# EAGLE library part SW_ROT_2P12T (library wheat)
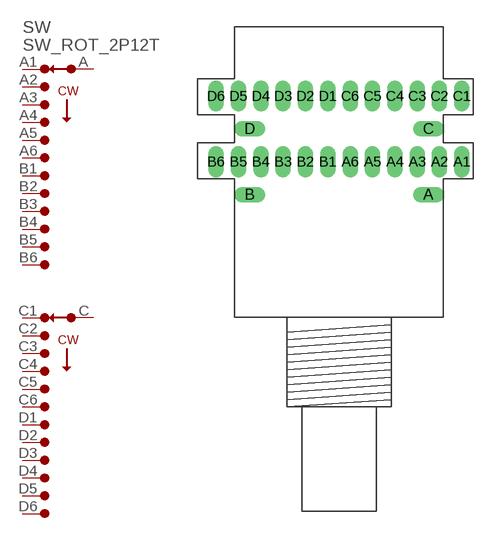
[diagram p263: symbol with the pads of SW_71BDF-02; footprint SW_71BDF-02]

Designator prefix SW

## SW_ROT_2P12T  [SW_71BDF-02]
A  AC  pas
A1  A1  pas
A2  A2  pas
A3  A3  pas
A4  A4  pas
A5  A5  pas
A6  A6  pas
B1  A7  pas
B2  A8  pas
B3  A9  pas
B4  A10  pas
B5  A11  pas
B6  A12  pas
C  BC  pas
C1  B1  pas
C2  B2  pas
C3  B3  pas
C4  B4  pas
C5  B5  pas
C6  B6  pas
D1  B7  pas
D2  B8  pas
D3  B9  pas
D4  B10  pas
D5  B11  pas
D6  B12  pas

## Footprint SW_71BDF-02 (pad centres in mm)
drill 0.813 pad 1.321 long: A 7.62,10.465; A1 10.477,13.259; A2 8.572,13.259; A3 6.668,13.259; A4 4.763,13.259; A5 2.857,13.259; A6 0.953,13.259; B -7.62,10.465; B1 -0.953,13.259; B2 -2.857,13.259; B3 -4.763,13.259; B4 -6.668,13.259; B5 -8.572,13.259; B6 -10.477,13.259; C 7.62,16.053; C1 10.477,18.847; C2 8.572,18.847; C3 6.668,18.847; C4 4.763,18.847; C5 2.857,18.847; C6 0.953,18.847; D -7.62,16.053; D1 -0.953,18.847; D2 -2.857,18.847; D3 -4.763,18.847; D4 -6.668,18.847; D5 -8.572,18.847; D6 -10.477,18.847